# Altium footprint library MISC.PcbLib: 20 footprints (part 1 of 2)
Each footprint in its own frame and in the unit in brackets; x right, y up, seen from the top. Pads: shape width x height; smd on the part's side, far side on the other; paste and mask are expansions set on the pad; w line width, h text height; cw(c..) or ccw(c..) is an arc to the next point about the centre after c.
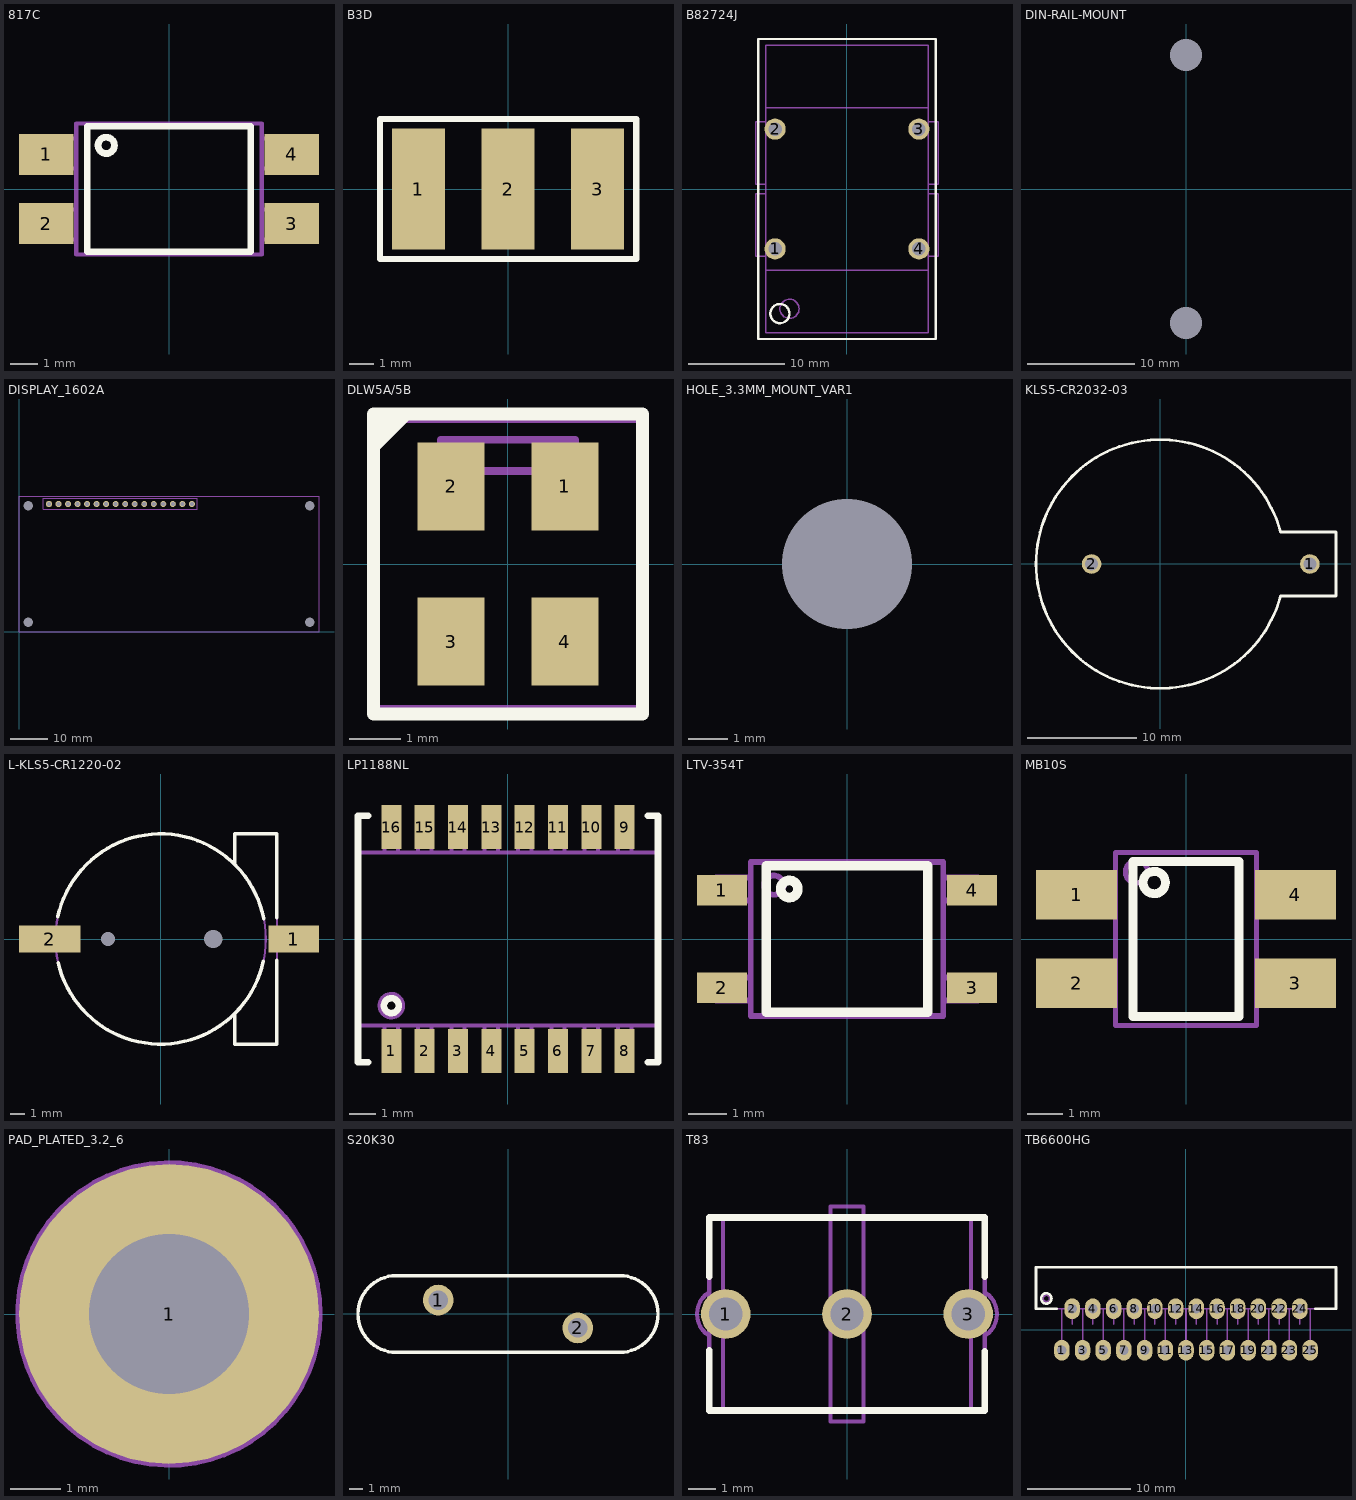
[diagram p0: the footprints below, top view; thin cyan lines are the x and y axes]

## 817C [mm]
pads (4):
  rect 2x1.5 smd: 1(-4.5,1.27) 2(-4.5,-1.27) 3(4.5,-1.27) 4(4.5,1.27)
Top Overlay:
  circle w0.25: c-2.3,1.6 r0.3
  lines w0.25: -3,-2.3 3,-2.3 3,2.3 -3,2.3 -3,-2.3
Top Assembly:
  lines w0.15: -4.9,-1.85 -3.4,-1.85 -3.4,-0.75 -4.9,-0.75 -4.9,-1.85 ; -4.9,0.75 -3.4,0.75 -3.4,1.85 -4.9,1.85 -4.9,0.75 ; -3.4,-2.4 3.4,-2.4 3.4,2.4 -3.4,2.4 -3.4,-2.4 ; 3.4,-1.85 4.9,-1.85 4.9,-0.75 3.4,-0.75 3.4,-1.85 ; 3.4,0.75 4.9,0.75 4.9,1.85 3.4,1.85 3.4,0.75
3D body "PC817S.STEP": height 3.85, standoff 0, extent -5,-2.29 5,2.29

## B3D [mm]
pads (3):
  rect 2.2x5 smd: 1(-3.7,0) 2(0,0) 3(3.7,0)
Top Overlay:
  lines w0.25: -5.3,-2.9 5.3,-2.9 5.3,2.9 -5.3,2.9 -5.3,-2.9
Top Assembly:
  lines w0.15: -5.3,-2.9 5.3,-2.9 5.3,2.9 -5.3,2.9 -5.3,-2.9
3D body "B3D90L.step": height 6.1, standoff 0, extent -3.95,-2.6 3.95,2.6

## B82724J [mm]
pads (4):
  round 2.2 hole 1.4: 1(-7.5,-6.25) 2(-7.5,6.25) 3(7.5,6.25) 4(7.5,-6.25)
Top Overlay:
  circle w0.25: c-7,-13 r1
  lines w0.25: -9.25,-15.65 9.25,-15.65 9.25,15.65 -9.25,15.65 -9.25,-15.65
Top Assembly:
  circle w0.15: c-6,-12.5 r1
  lines w0.15: -9.5,-7 -8.5,-7 -8.5,-0.5 -9.5,-0.5 -9.5,-7 ; -9.5,0.5 -8.5,0.5 -8.5,7 -9.5,7 -9.5,0.5 ; -8.5,-15 8.5,-15 8.5,15 -8.5,15 -8.5,-15 ; -8.5,-8.5 8.5,-8.5 8.5,8.5 -8.5,8.5 -8.5,-8.5 ; 8.5,-7 9.5,-7 9.5,-0.5 8.5,-0.5 8.5,-7 ; 8.5,0.5 9.5,0.5 9.5,7 8.5,7 8.5,0.5
3D body "B82724J.step": height 33.21, standoff -4, extent -9.25,-15.65 9.25,15.65

## DIN-RAIL-MOUNT [mm]
pads (2):
  round 0 hole 3 unplated mask+4: 0(0,-12.5) 0(0,12.5)
3D body "dinm01_rev_b.step": height 19.18, standoff 0.2, extent -5,-21.478 5,21.478

## DISPLAY_1602A [mm]
pads (20):
  round 1.7 hole 1.1: 1(8,34)
  round 0 hole 2.5 unplated: 2(2.5,2.5) 2(2.5,33.5) 2(77.5,2.5) 2(77.5,33.5)
  round 1.6 hole 1.1: 2(10.54,34) 3(13.08,34) 4(15.62,34) 5(18.16,34) 6(20.7,34) 7(23.24,34) 8(25.78,34) 9(28.32,34) 10(30.86,34) 11(33.4,34) 12(35.94,34) 13(38.48,34) 14(41.02,34) 15(43.56,34) 16(46.1,34)
Mechanical 1:
  lines w0.15: 0,0 80,0 80,36 0,36 0,0
Top Assembly:
  lines w0.15: 6.5,32.6 47.5,32.6 47.5,35.5 6.5,35.5 6.5,32.6
3D body "LCD_1602a.STEP": height 14.8, standoff 3.4, extent 0,0 80,36

## DLW5A/5B [mm]
pads (4):
  rect 1.3x1.7 smd: 1(1.1,1.5) 2(-1.1,1.5) 3(-1.1,-1.5) 4(1.1,-1.5)
Top Overlay:
  region: -1.8,2.9 -2.6,2.1 -2.6,2.9
  lines w0.25: -2.6,-2.9 2.6,-2.9 2.6,2.9 -2.6,2.9 -2.6,-2.9
Top Assembly:
  lines w0.15: -2.6,-2.8 2.6,-2.8 2.6,2.8 -2.6,2.8 -2.6,-2.8 ; -1.3,1.8 1.3,1.8 1.3,2.4 -1.3,2.4 -1.3,1.8
3D body "DLW5B.STEP": height 2.5, standoff 0, extent -2.5,-2.55 2.5,2.55

## HOLE_3.3MM_MOUNT_VAR1 [mm]
pads (1):
  round 0 hole 3.3 unplated: 4(0,0)
Multi-Layer:
  pour cut-out: 0,-3.8 -0.249,-3.8 -0.743,-3.735 -1.224,-3.606 -1.684,-3.415 -2.116,-3.166 -2.511,-2.863 -2.863,-2.511 -3.166,-2.116 -3.415,-1.684 -3.606,-1.224 -3.735,-0.743 -3.8,-0.249 -3.8,0 -3.8,0.249 -3.735,0.743 -3.606,1.224 -3.415,1.684 -3.166,2.116 -2.863,2.511 -2.511,2.863 -2.116,3.166 -1.684,3.415 -1.224,3.606 -0.743,3.735 -0.249,3.8 0,3.8 0.249,3.8 0.743,3.735 1.224,3.606 1.684,3.415 2.116,3.166 2.511,2.863 2.863,2.511 3.166,2.116 3.415,1.684 3.606,1.224 3.735,0.743 3.8,0.249 3.8,0 3.8,-0.249 3.735,-0.743 3.606,-1.224 3.415,-1.684 3.166,-2.116 2.863,-2.511 2.511,-2.863 2.116,-3.166 1.684,-3.415 1.224,-3.606 0.743,-3.735 0.249,-3.8

## KLS5-CR2032-03 [mm]
pads (2):
  round 1.8 hole 1.2: 1(13.7,0) 2(-6.3,0)
Top Overlay:
  lines w0.25: 16.096,-2.93 16.1,-2.925 ; 16.096,-2.93 11.017,-2.93 cw(c0,0) 11.017,2.93 16.096,2.93 ; 16.096,-2.93 16.1,-2.925 ; 16.096,2.93 16.1,2.925 ; 16.096,2.93 16.1,2.925 ; 16.1,-2.925 16.1,2.925
Top Assembly:
  lines w0.15: 16.096,-2.93 11.017,-2.93 cw(c0,0) 11.017,2.93 16.096,2.93 ; 16.1,-2.925 16.1,2.925
3D body "KLS5-CR2032.stp": height 10.41, standoff -2.8, extent -11.45,-11.45 16.05,11.45

## L-KLS5-CR1220-02 [mm]
pads (4):
  rect 3.6x1.9 smd: 1(9.5,0)
  rect 4.4x1.9 smd: 2(-7.9,0)
  round 0 hole 1.3 unplated mask+0: -1(3.75,0)
  round 0 hole 1 unplated mask+0: -2(-3.75,0)
Top Overlay:
  lines w0.25: -7.331,1.585 cw(c0,0) 7.358,1.452 ; -7.31,-1.679 ccw(c0,0) 7.331,-1.585 ; 5.3,-5.4 5.3,-7.5 8.3,-7.5 8.3,-1.5 ; 5.3,5.307 5.3,6.075 5.3,7.025 5.3,7.5 8.3,7.5 8.3,1.5
Top Assembly:
  circle w0.15: c0,0 r7.5
  lines w0.15: 5.3,-5.3 5.3,-7.5 8.3,-7.5 8.3,7.5 5.3,7.5 5.3,5.3
3D body "CR1220.STEP": height 4.04, standoff -0.9, extent -9.032,-7.5 9.468,7.497

## LP1188NL [mm]
pads (16):
  rect 0.76x1.67 smd: 1(-4.445,-4.265) 2(-3.175,-4.265) 3(-1.905,-4.265) 4(-0.635,-4.265) 5(0.635,-4.265) 6(1.905,-4.265) 7(3.175,-4.265) 8(4.445,-4.265) 9(4.445,4.265) 10(3.175,4.265) 11(1.905,4.265) 12(0.635,4.265) 13(-0.635,4.265) 14(-1.905,4.265) 15(-3.175,4.265) 16(-4.445,4.265)
Top Overlay:
  circle w0.25: c-4.445,-2.54 r0.284
  lines w0.25: -5.334,-4.699 -5.715,-4.699 -5.715,4.699 -5.334,4.699 ; 5.334,-4.699 5.715,-4.699 5.715,4.699 5.334,4.699
Bottom Assembly:
  circle w0.15: c-4.445,-2.54 r0.45
  lines w0.15: -5.715,-3.302 5.715,-3.302 5.715,3.302 -5.715,3.302 -5.715,-3.302 ; -4.699,-4.699 -4.191,-4.699 -4.191,-3.302 -4.699,-3.302 -4.699,-4.699 ; -4.699,3.302 -4.191,3.302 -4.191,4.699 -4.699,4.699 -4.699,3.302 ; -3.429,-4.699 -2.921,-4.699 -2.921,-3.302 -3.429,-3.302 -3.429,-4.699 ; -3.429,3.302 -2.921,3.302 -2.921,4.699 -3.429,4.699 -3.429,3.302 ; -2.159,-4.699 -1.651,-4.699 -1.651,-3.302 -2.159,-3.302 -2.159,-4.699 ; -2.159,3.302 -1.651,3.302 -1.651,4.699 -2.159,4.699 -2.159,3.302 ; -0.889,-4.699 -0.381,-4.699 -0.381,-3.302 -0.889,-3.302 -0.889,-4.699 ; -0.889,3.302 -0.381,3.302 -0.381,4.699 -0.889,4.699 -0.889,3.302 ; 0.381,-4.699 0.889,-4.699 0.889,-3.302 0.381,-3.302 0.381,-4.699 ; 0.381,3.302 0.889,3.302 0.889,4.699 0.381,4.699 0.381,3.302 ; 1.651,-4.699 2.159,-4.699 2.159,-3.302 1.651,-3.302 1.651,-4.699 ; 1.651,3.302 2.159,3.302 2.159,4.699 1.651,4.699 1.651,3.302 ; 2.921,-4.699 3.429,-4.699 3.429,-3.302 2.921,-3.302 2.921,-4.699 ; 2.921,3.302 3.429,3.302 3.429,4.699 2.921,4.699 2.921,3.302 ; 4.191,-4.699 4.699,-4.699 4.699,-3.302 4.191,-3.302 4.191,-4.699 ; 4.191,3.302 4.699,3.302 4.699,4.699 4.191,4.699 4.191,3.302
3D body "lp1188nl.stp": height 6.25, standoff 0.05, extent -5.725,-4.65 5.725,4.65

## LTV-354T [mm]
pads (4):
  rect 1.3x0.8 smd: 1(-3.25,1.27) 2(-3.25,-1.27) 3(3.25,-1.27) 4(3.25,1.27)
Top Overlay:
  circle w0.25: c-1.5,1.3 r0.224
  lines w0.25: -2.1,-1.9 2.1,-1.9 2.1,1.9 -2.1,1.9 -2.1,-1.9
Top Assembly:
  circle w0.15: c-1.9,1.4 r0.25
  lines w0.15: -3.4,-1.6 -2.5,-1.6 -2.5,-1 -3.4,-1 -3.4,-1.6 ; -3.4,1 -2.5,1 -2.5,1.6 -3.4,1.6 -3.4,1 ; -2.5,-2 2.5,-2 2.5,2 -2.5,2 -2.5,-2 ; 2.5,-1.6 3.4,-1.6 3.4,-1 2.5,-1 2.5,-1.6 ; 2.5,1 3.4,1 3.4,1.6 2.5,1.6 2.5,1
3D body "LTV-354T.step": height 2.2, standoff 0.01, extent -3.503,-1.925 3.503,1.925

## MB10S [mm]
pads (4):
  rect 2.3x1.4 smd: 1(-3.1,1.25) 2(-3.1,-1.25) 3(3.1,-1.25) 4(3.1,1.25)
Top Overlay:
  circle w0.25: c-0.9,1.6 r0.316
  lines w0.25: -1.5,-2.2 1.5,-2.2 1.5,2.2 -1.5,2.2 -1.5,-2.2
Top Assembly:
  circle w0.15: c-1.4,1.9 r0.316
  lines w0.15: -3.5,-1.7 -2,-1.7 -2,-0.8 -3.5,-0.8 -3.5,-1.7 ; -3.5,0.8 -2,0.8 -2,1.7 -3.5,1.7 -3.5,0.8 ; -2,-2.45 2,-2.45 2,2.45 -2,2.45 -2,-2.45 ; 2,-1.7 3.5,-1.7 3.5,-0.8 2,-0.8 2,-1.7 ; 2,0.8 3.5,0.8 3.5,1.7 2,1.7 2,0.8
3D body "SOIC-4 (Fairchild).STEP": height 1.75, standoff 0, extent -3.1,-2.35 3.1,2.35

## PAD_PLATED_3.2_6 [mm]
pads (1):
  round 6 hole 3.2: 1(0,0)
Top Assembly:
  circle w0.15: c0,0 r3
Bottom Assembly:
  circle w0.15: c0,0 r3

## S20K30 [mm]
pads (2):
  round 2.2 hole 1.4: 1(-5,1) 2(5,-1)
Top Overlay:
  lines w0.25: -8,-2.75 cw(c-8,0) -8,2.75 8,2.75 cw(c8,0) 8,-2.75 -8,-2.75
Top Assembly:
  lines w0.15: -8,-2.75 cw(c-8,0) -8,2.75 8,2.75 cw(c8,0) 8,-2.75 -8,-2.75
3D body "Varistor_20mm.STEP": height 25.5, standoff -1.99, extent -10.939,-3.463 10.835,3.453

## T83 [mm]
pads (3):
  round 1.8 hole 1.2: 1(-4.4,0) 2(0,0) 3(4.4,0)
Top Overlay:
  lines w0.25: -5,-1.317 -5,-3.5 5,-3.5 5,-1.35 ; -5,1.35 -5,3.5 5,3.5 5,1.35
Top Assembly:
  lines w0.15: -5,-0.8 cw(c-4.5,0) -5,0.8 ; -4.5,-3.5 -4.5,3.5 ; 4.5,-3.5 4.5,3.5 ; 5,-0.8 ccw(c4.5,0) 5,0.8 ; -5,-3.5 -0.6,-3.5 -0.6,3.5 -5,3.5 -5,-3.5 ; -0.6,-3.9 0.6,-3.9 0.6,3.9 -0.6,3.9 -0.6,-3.9 ; 0.6,-3.5 5,-3.5 5,3.5 0.6,3.5 0.6,-3.5
3D body "7687584.stp": height 9, standoff -4.5, extent -5.955,-3 5.955,3

## TB6600HG [mm]
pads (25):
  oval 1.5x2 hole 0.9: 1(-12,-2) 2(-11,2) 3(-10,-2) 4(-9,2) 5(-8,-2) 6(-7,2) 7(-6,-2) 8(-5,2) 9(-4,-2) 10(-3,2) 11(-2,-2) 12(-1,2) 13(0,-2) 14(1,2) 15(2,-2) 16(3,2) 17(4,-2) 18(5,2) 19(6,-2) 20(7,2) 21(8,-2) 22(9,2) 23(10,-2) 24(11,2) 25(12,-2)
Top Overlay:
  circle w0.25: c-13.5,3 r0.5
  lines w0.25: -12.5,2 -14.5,2 -14.5,6 14.5,6 14.5,2 12.5,2
Top Assembly:
  circle w0.15: c-13.5,3 r0.3
  lines w0.15: -12,-2 -12,2 ; -11,0.5 -11,2 ; -10,-2 -10,2 ; -9,0.5 -9,2 ; -8,-2 -8,2 ; -7,0.5 -7,2 ; -6,-2 -6,2 ; -5,0.5 -5,2 ; -4,-2 -4,2 ; -3,0.5 -3,2 ; -2,-2 -2,2 ; -1,0.5 -1,2 ; 0,-2 0,2 ; 1,0.5 1,2 ; 2,-2 2,2 ; 3,0.5 3,2 ; 4,-2 4,2 ; 5,0.5 5,2 ; 6,-2 6,2 ; 7,0.5 7,2 ; 8,-2 8,2 ; 9,0.5 9,2 ; 10,-2 10,2 ; 11,0.5 11,2 ; 12,-2 12,2 ; -14.5,2 14.5,2 14.5,6 -14.5,6 -14.5,2
3D body "HZIP25-1_00F.step": height 19.73, standoff -2.77, extent -14.4,-2.16 14.4,6.25